# EAGLE library part MCP6024-I_SL (library hothouse-no-branding)
Quad 2.3V 10MHz Op Amp,MCP6024-I/SL Source: Datasheet <https://datasheet.datasheetarchive.com/originals/distributors/SFDatasheet-4/sf-00090088.pdf>
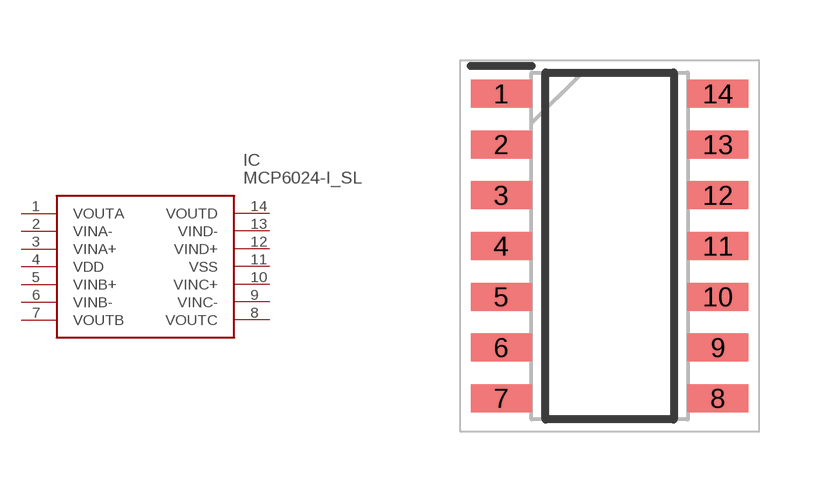
[diagram p1: symbol with the pads of SOIC127P600X175-14N; footprint SOIC127P600X175-14N]

Designator prefix IC

## MCP6024-I_SL (DESCRIPTION: Quad 2.3V 10MHz Op Amp,MCP6024-I/SL; HEIGHT: 1.75mm; MANUFACTURER_NAME: Microchip; MANUFACTURER_PART_NUMBER: MCP6024-I/SL; MOUSER_PART_NUMBER: 579-MCP6024-I/SL; MOUSER_PRICE-STOCK: https://www.mouser.co.uk/ProductDetail/Microchip-Technology/MCP6024-I-SL?qs=QQ%252Byn%2FmNCzxlSLtX4H41uA%3D%3D)  [SOIC127P600X175-14N]
1  VOUTA
2  VINA-
3  VINA+
4  VDD
5  VINB+
6  VINB-
7  VOUTB
8  VOUTC
9  VINC-
10  VINC+
11  VSS
12  VIND+
13  VIND-
14  VOUTD

## Footprint SOIC127P600X175-14N (pad centres in mm)
(SL)14-Lead(SOIC)2003ver
smd 1.525 x 0.7: 1 -2.712,3.81; 2 -2.712,2.54; 3 -2.712,1.27; 4 -2.712,0; 5 -2.712,-1.27; 6 -2.712,-2.54; 7 -2.712,-3.81; 8 2.712,-3.81; 9 2.712,-2.54; 10 2.712,-1.27; 11 2.712,0; 12 2.712,1.27; 13 2.712,2.54; 14 2.712,3.81